# Altium footprint library Connectors_1,27mm.PcbLib: 35 footprints (part 2 of 3)
Each footprint in its own frame and in the unit in brackets; x right, y up, seen from the top. Pads: shape width x height; smd on the part's side, far side on the other; paste and mask are expansions set on the pad; w line width, h text height; cw(c..) or ccw(c..) is an arc to the next point about the centre after c.
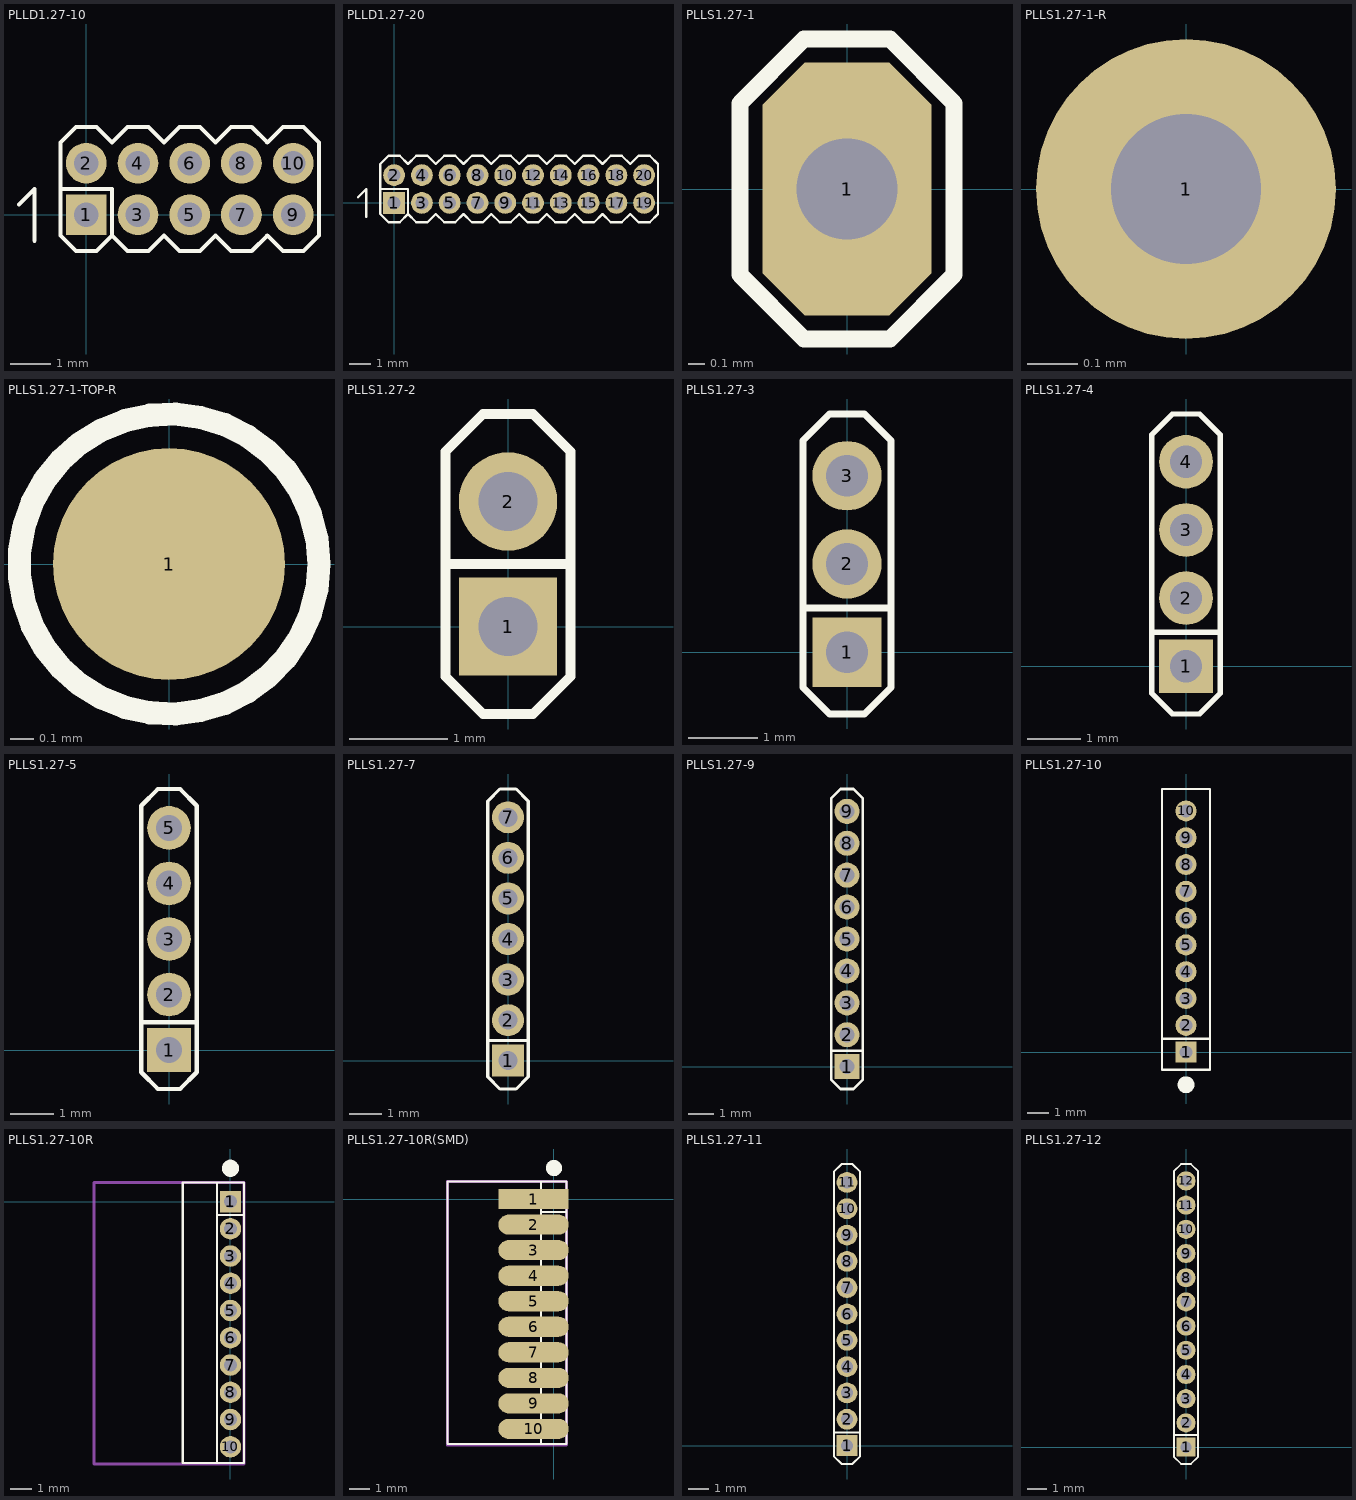
[diagram p1: the footprints below, top view; thin cyan lines are the x and y axes]

## PLLD1.27-10 [mm] "1.27mm pin header connector with 2mm body height. 4..80 pins"
pads (10):
  rect 1x1 hole 0.6: 1(0,0)
  round 1 hole 0.6: 2(0,1.27) 3(1.27,0) 4(1.27,1.27) 5(2.54,0) 6(2.54,1.27) 7(3.81,0) 8(3.81,1.27) 9(5.08,0) 10(5.08,1.27)
Top Overlay:
  lines w0.1: -1.651,0.254 -1.27,0.635 -1.27,-0.635 ; -0.635,0.635 0.635,0.635 0.635,-0.508 ; 0.635,-0.508 1.016,-0.889 1.524,-0.889 1.905,-0.508 2.286,-0.889 2.794,-0.889 3.175,-0.508 3.556,-0.889 4.064,-0.889 4.445,-0.508 4.826,-0.889 5.334,-0.889 5.715,-0.508 5.715,1.778 5.334,2.159 4.826,2.159 4.445,1.778 4.064,2.159 3.556,2.159 3.175,1.778 2.794,2.159 2.286,2.159 1.905,1.778 1.524,2.159 1.016,2.159 0.635,1.778 0.254,2.159 -0.254,2.159 -0.635,1.778 -0.635,-0.508 -0.254,-0.889 0.254,-0.889 0.635,-0.508
3D body "User Library-PLLD1_27-xx (1).step": height 4.7, standoff -2.6, extent -0.635,-0.865 5.715,2.135

## PLLD1.27-20 [mm] "1.27mm pin header connector with 2mm body height. 4..80 pins"
pads (20):
  rect 1x1 hole 0.6: 1(0,0)
  round 1 hole 0.6: 2(0,1.27) 3(1.27,0) 4(1.27,1.27) 5(2.54,0) 6(2.54,1.27) 7(3.81,0) 8(3.81,1.27) 9(5.08,0) 10(5.08,1.27) 11(6.35,0) 12(6.35,1.27) 13(7.62,0) 14(7.62,1.27) 15(8.89,0) 16(8.89,1.27) 17(10.16,0) 18(10.16,1.27) 19(11.43,0) 20(11.43,1.27)
Top Overlay:
  lines w0.1: -1.651,0.254 -1.27,0.635 -1.27,-0.635 ; -0.635,0.635 0.635,0.635 0.635,-0.508 ; 0.635,-0.508 0.254,-0.889 -0.254,-0.889 -0.635,-0.508 -0.635,1.778 -0.254,2.159 0.254,2.159 0.635,1.778 1.016,2.159 1.524,2.159 1.905,1.778 2.286,2.159 2.794,2.159 3.175,1.778 3.556,2.159 4.064,2.159 4.445,1.778 4.826,2.159 5.334,2.159 5.715,1.778 6.096,2.159 6.604,2.159 6.985,1.778 7.366,2.159 7.874,2.159 8.255,1.778 8.636,2.159 9.144,2.159 9.525,1.778 9.906,2.159 10.414,2.159 10.795,1.778 11.176,2.159 11.684,2.159 12.065,1.778 12.065,-0.508 11.684,-0.889 11.176,-0.889 10.795,-0.508 10.414,-0.889 9.906,-0.889 9.525,-0.508 9.144,-0.889 8.636,-0.889 8.255,-0.508 7.874,-0.889 7.366,-0.889 6.985,-0.508 6.604,-0.889 6.096,-0.889 5.715,-0.508 5.334,-0.889 4.826,-0.889 4.445,-0.508 4.064,-0.889 3.556,-0.889 3.175,-0.508 2.794,-0.889 2.286,-0.889 1.905,-0.508 1.524,-0.889 1.016,-0.889 0.635,-0.508
3D body "User Library-PLLD1_27-xx.step": height 5.2, standoff -2.1, extent -0.635,-0.865 12.065,2.135

## PLLS1.27-1 [mm] "1.27mm pin header connector with 2mm body height. 4..80 pins"
pads (1):
  oct 1x1.5 hole 0.6: 1(0,0)
Top Overlay:
  lines w0.1: -0.635,-0.508 -0.254,-0.889 0.254,-0.889 0.635,-0.508 0.635,0.508 0.254,0.889 -0.254,0.889 -0.635,0.508 -0.635,-0.508

## PLLS1.27-1-R [mm]
pads (1):
  round 0.6 hole 0.3: 1(0,0)

## PLLS1.27-1-TOP-R [mm]
pads (1):
  round 1 smd paste-25.375 mask+0.102: 1(0,0)
Top Overlay:
  circle w0.1: c0,0 r0.648

## PLLS1.27-2 [mm] "1.27mm pin header connector with 2mm body height. 4..80 pins"
pads (2):
  rect 1x1 hole 0.6: 1(0,0)
  round 1 hole 0.6: 2(0,1.27)
Top Overlay:
  lines w0.1: -0.635,0.635 0.635,0.635 0.635,-0.508 0.254,-0.889 -0.254,-0.889 -0.635,-0.508 -0.635,1.778 -0.254,2.159 0.254,2.159 0.635,1.778 0.635,1.27 0.635,-0.381
3D body "Pin.STEP": height 4, standoff -2.3, extent -0.635,-0.635 0.635,1.905

## PLLS1.27-3 [mm]
pads (3):
  rect 1x1 hole 0.6: 1(0,0)
  round 1 hole 0.6: 2(0,1.27) 3(0,2.54)
Top Overlay:
  lines w0.1: -0.635,0.635 0.635,0.635 0.635,-0.508 0.254,-0.889 -0.254,-0.889 -0.635,-0.508 -0.635,3.023 ; -0.635,3.048 -0.254,3.429 0.254,3.429 0.635,3.048 0.635,1.27 0.635,-0.381
3D body "Pin x3.STEP": height 4, standoff -2.3, extent -0.635,-0.635 0.635,3.175

## PLLS1.27-4 [mm]
pads (4):
  rect 1x1 hole 0.6: 1(0,0)
  round 1 hole 0.6: 2(0,1.27) 3(0,2.54) 4(0,3.81)
Top Overlay:
  lines w0.1: -0.635,0.635 0.635,0.635 ; -0.635,-0.508 -0.254,-0.889 0.254,-0.889 0.635,-0.508 0.635,4.318 0.254,4.699 -0.254,4.699 -0.635,4.318 -0.635,-0.508

## PLLS1.27-5 [mm]
pads (5):
  rect 1x1 hole 0.6: 1(0,0)
  round 1 hole 0.6: 2(0,1.27) 3(0,2.54) 4(0,3.81) 5(0,5.08)
Top Overlay:
  lines w0.1: -0.635,0.635 0.635,0.635 ; -0.635,-0.508 -0.635,5.588 -0.254,5.969 0.254,5.969 0.635,5.588 0.635,-0.508 0.254,-0.889 -0.254,-0.889 -0.635,-0.508

## PLLS1.27-7 [mm]
pads (7):
  rect 1x1 hole 0.6: 1(0,0)
  round 1 hole 0.6: 2(0,1.27) 3(0,2.54) 4(0,3.81) 5(0,5.08) 6(0,6.35) 7(0,7.62)
Top Overlay:
  lines w0.1: -0.635,0.635 0.635,0.635 ; -0.445,8.319 -0.635,8.128 ; -0.635,8.128 -0.635,-0.508 -0.254,-0.889 0.254,-0.889 0.635,-0.508 0.635,8.128 0.254,8.509 -0.254,8.509 ; -0.635,8.128 -0.254,8.509 ; -0.635,8.128 -0.254,8.509

## PLLS1.27-9 [mm]
pads (9):
  rect 1x1 hole 0.6: 1(0,0)
  round 1 hole 0.6: 2(0,1.27) 3(0,2.54) 4(0,3.81) 5(0,5.08) 6(0,6.35) 7(0,7.62) 8(0,8.89) 9(0,10.16)
Top Overlay:
  lines w0.1: -0.635,0.635 0.635,0.635 ; -0.635,10.668 -0.635,-0.508 -0.254,-0.889 0.254,-0.889 0.635,-0.508 0.635,10.668 0.254,11.049 -0.254,11.049 ; -0.635,10.668 -0.254,11.049 ; -0.635,10.668 -0.254,11.049

## PLLS1.27-10 [mm]
pads (10):
  rect 1x1 hole 0.6: 1(0,0)
  round 1 hole 0.6: 2(0,1.27) 3(0,2.54) 4(0,3.81) 5(0,5.08) 6(0,6.35) 7(0,7.62) 8(0,8.89) 9(0,10.16) 10(0,11.43)
Top Overlay:
  lines w0.1: -1.143,0.635 1.143,0.635 ; -1.143,-0.838 -1.143,12.192 -1.143,12.471 1.143,12.471 1.143,12.192 1.143,-0.838 -1.143,-0.838
  lines w0.4: -0.2,-1.549 cw(c0,-1.549) -0.198,-1.578
3D body "mill-max-850-10-010-10-001000.STEP": height 5.3, standoff -2.81, extent -1.105,-0.838 1.105,12.243

## PLLS1.27-10R [mm]
pads (10):
  rect 1x1 hole 0.6: 1(0,0)
  round 1 hole 0.6: 2(0,-1.27) 3(0,-2.54) 4(0,-3.81) 5(0,-5.08) 6(0,-6.35) 7(0,-7.62) 8(0,-8.89) 9(0,-10.16) 10(0,-11.43)
Top Overlay:
  lines w0.1: -0.635,-12.192 -0.635,0.851 ; -0.635,-0.635 0.635,-0.635 ; -2.223,-12.192 0.635,-12.192 0.635,0.889 -2.223,0.889 -2.223,-12.192
  lines w0.4: 0.198,1.578 ccw(c0,1.549) 0.2,1.549
Mechanical 1:
  lines w0.15: -6.365,-12.23 -6.365,0.889 0.635,0.889 0.635,-12.192 cw(c0.597,-12.192) 0.597,-12.23 -6.365,-12.23 ; -5.309,-12.23 ccw(c-5.309,-12.23) -5.309,-12.23
3D body "mill-max-850-10-010-20-001000.STEP": height 2.31, standoff -2.88, extent -6.365,-12.217 0.229,0.864

## PLLS1.27-10R(SMD) [mm]
pads (10):
  rect 3.5x1 smd: 1(-1.016,0)
  oval 3.5x1 smd: 2(-1.016,-1.27) 3(-1.016,-2.54) 4(-1.016,-3.81) 5(-1.016,-5.08) 6(-1.016,-6.35) 7(-1.016,-7.62) 8(-1.016,-8.89) 9(-1.016,-10.16) 10(-1.016,-11.43)
Top Overlay:
  lines w0.1: -0.635,-12.192 -0.635,0.851 ; -0.635,-0.635 0.635,-0.635 ; -5.309,-12.192 0.635,-12.192 0.635,0.889 -5.309,0.889 -5.309,-12.192
  lines w0.4: 0.198,1.578 ccw(c0,1.549) 0.2,1.549
Mechanical 1:
  lines w0.15: -5.309,-12.23 ccw(c-5.309,-12.23) -5.309,-12.23 ; -5.309,-12.23 -5.309,0.851 cw(c-5.271,0.851) -5.271,0.889 0.635,0.889 0.635,-12.192 cw(c0.597,-12.192) 0.597,-12.23 -5.309,-12.23
3D body "850-10-010-40-001000.STEP": height 2.3, standoff 0.1, extent -9.455,-12.192 0.2,0.888

## PLLS1.27-11 [mm]
pads (11):
  rect 1x1 hole 0.6: 1(0,0)
  round 1 hole 0.6: 2(0,1.27) 3(0,2.54) 4(0,3.81) 5(0,5.08) 6(0,6.35) 7(0,7.62) 8(0,8.89) 9(0,10.16) 10(0,11.43) 11(0,12.7)
Top Overlay:
  lines w0.1: -0.635,0.635 0.635,0.635 ; -0.635,13.208 -0.254,13.589 ; -0.635,13.208 -0.254,13.589 ; -0.635,13.208 -0.635,-0.508 -0.254,-0.889 0.254,-0.889 0.635,-0.508 0.635,13.208 0.254,13.589 -0.254,13.589

## PLLS1.27-12 [mm]
pads (12):
  rect 1x1 hole 0.6: 1(0,0)
  round 1 hole 0.6: 2(0,1.27) 3(0,2.54) 4(0,3.81) 5(0,5.08) 6(0,6.35) 7(0,7.62) 8(0,8.89) 9(0,10.16) 10(0,11.43) 11(0,12.7) 12(0,13.97)
Top Overlay:
  lines w0.1: -0.635,0.635 0.635,0.635 ; -0.635,14.478 -0.254,14.859 ; -0.635,14.478 -0.254,14.859 ; -0.635,14.478 -0.635,-0.508 -0.254,-0.889 0.254,-0.889 0.635,-0.508 0.635,14.478 0.254,14.859 -0.254,14.859